# EAGLE library part PCA9306 (library Levelschifter - I²C PA9306)
Name des Bauteiles: PCA9306 Daten:Levelshifter, SSOP8, 3,3V Artikelnummer: k.A Datenblatt:http://www.ti.com/lit/ds/symlink/pca9306.pdf
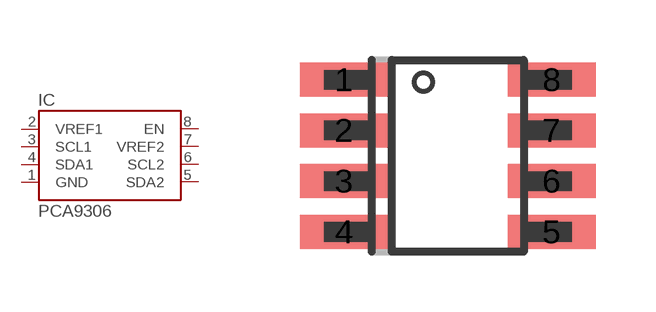
[diagram p0: symbol with the pads of SO8; footprint SO8]

Designator prefix IC

## PCA9306SMD  [SO8]
1  GND  pwr
2  VREF1  sup
3  SCL1
4  SDA1
5  SDA2
6  SCL2
7  VREF2  sup
8  EN  in

## Footprint SO8 (pad centres in mm)
smd 2.2 x 0.854: 1 -2.6,1.905; 2 -2.6,0.635; 3 -2.6,-0.635; 4 -2.6,-1.905; 5 2.6,-1.905; 6 2.6,-0.635; 7 2.6,0.635; 8 2.6,1.905